# Altium footprint library MyLib.PcbLib: 96 footprints (part 5 of 6)
Each footprint in its own frame and in the unit in brackets; x right, y up, seen from the top. Pads: shape width x height; smd on the part's side, far side on the other; paste and mask are expansions set on the pad; w line width, h text height; cw(c..) or ccw(c..) is an arc to the next point about the centre after c.
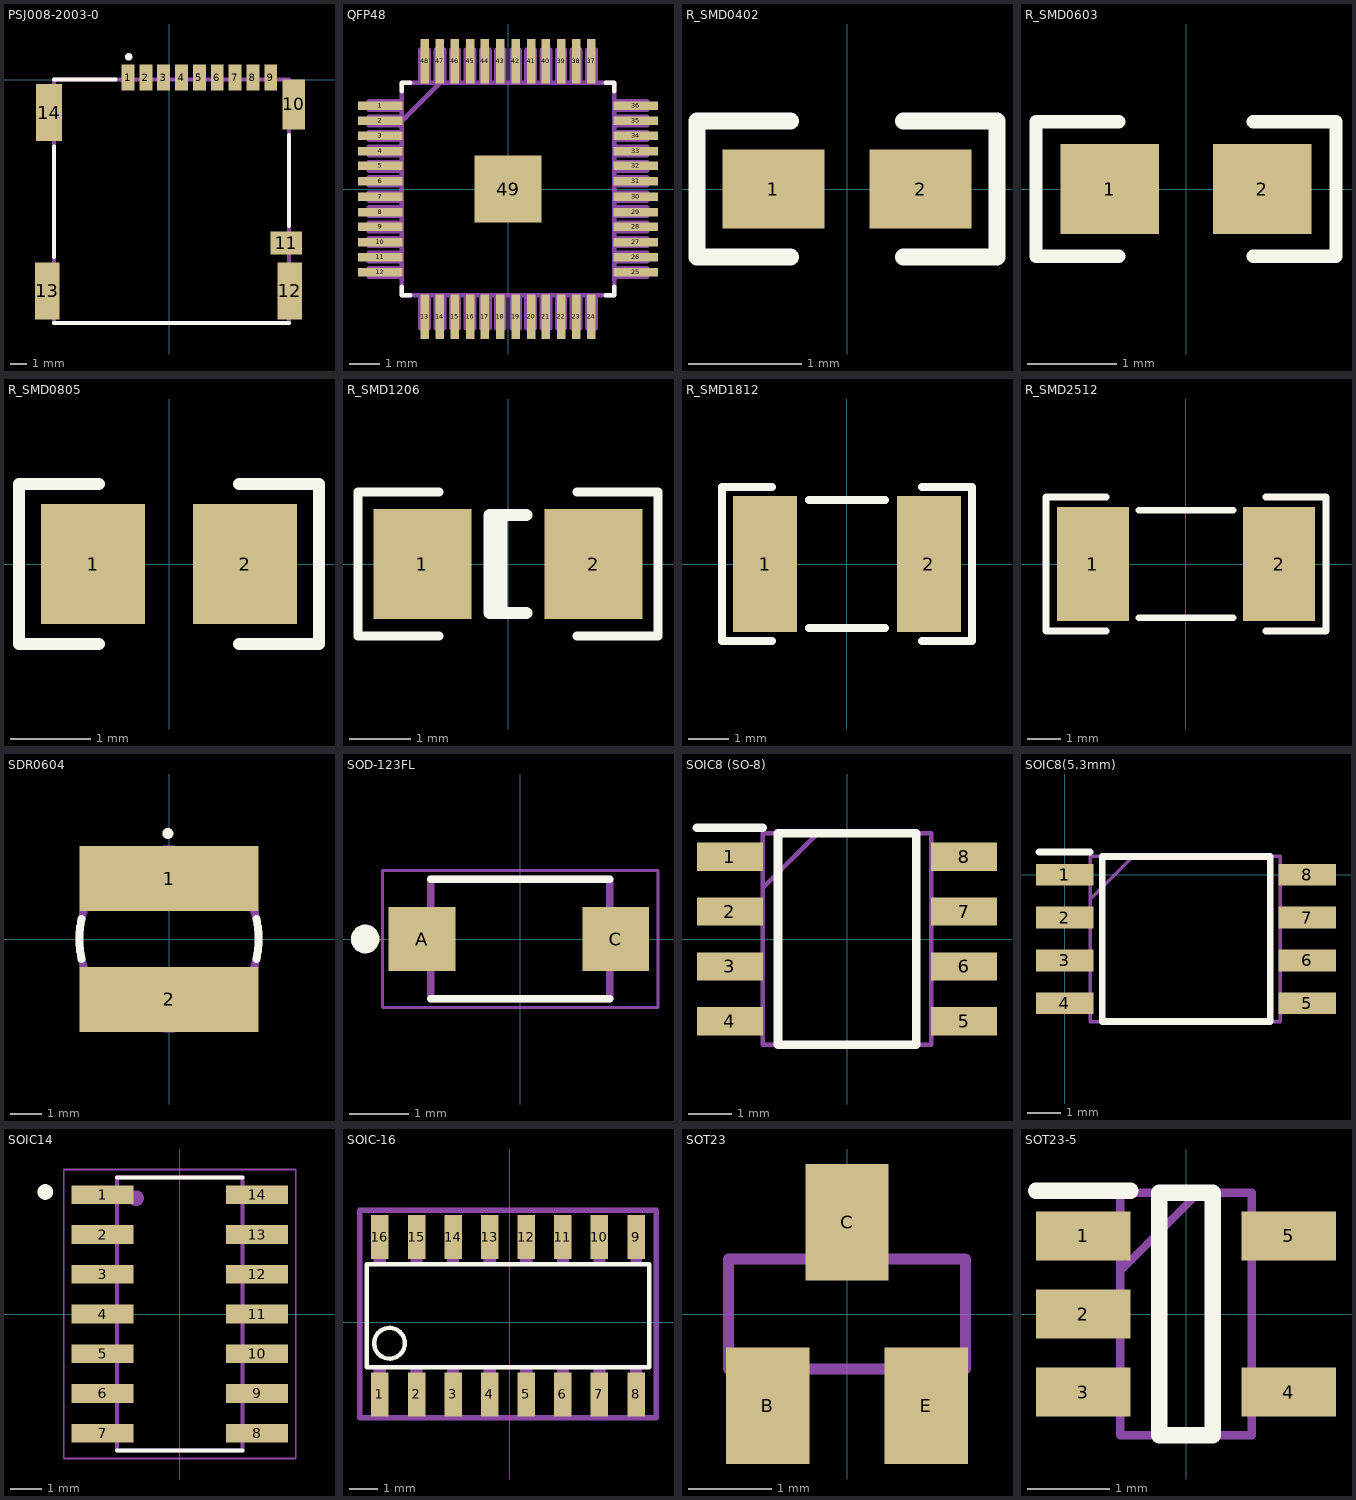
[diagram p4: the footprints below, top view; thin cyan lines are the x and y axes]

## PSJ008-2003-0 [mm]
pads (14):
  rect 0.8x1.6 smd: 1(-2.548,0.124) 2(-1.448,0.124) 3(-0.348,0.124) 4(0.752,0.124) 5(1.852,0.124) 6(2.952,0.124) 7(4.052,0.124) 8(5.152,0.124) 9(6.252,0.124)
  rect 1.4x3.1 smd: 10(7.677,-1.526)
  rect 1.95x1.4 smd: 11(7.202,-10.076)
  rect 1.5x3.5 smd: 12(7.427,-13.026) 13(-7.523,-13.026)
  rect 1.6x3.5 smd: 14(-7.423,-2.026)
Top Overlay:
  circle w0.254: c-2.508,1.412 r0.104
  lines w0.254: -7.123,-15 7.377,-15 ; -7.123,-10.93 -7.123,-4.122 ; -7.123,0 -3.318,0 ; 7.377,-9.032 7.377,-3.428
Mechanical 15:
  lines w0.254: -7.123,-15 -7.123,0 7.377,0 7.377,-15 -7.123,-15

## QFP48 [mil]
pads (49):
  rect 58x11 smd: 1(-166,108) 2(-166,89) 3(-166,69) 4(-166,49) 5(-166,30) 6(-166,10) 7(-166,-10) 8(-166,-30) 9(-166,-49) 10(-166,-69) 11(-166,-89) 12(-166,-108) 25(166,-108) 26(166,-89) 27(166,-69) 28(166,-49) 29(166,-30) 30(166,-10) 31(166,10) 32(166,30) 33(166,49) 34(166,69) 35(166,89) 36(166,108)
  rect 11x58 smd: 13(-108,-166) 14(-89,-166) 15(-69,-166) 16(-49,-166) 17(-30,-166) 18(-10,-166) 19(10,-166) 20(30,-166) 21(49,-166) 22(69,-166) 23(89,-166) 24(108,-166) 37(108,166) 38(89,166) 39(69,166) 40(49,166) 41(30,166) 42(10,166) 43(-10,166) 44(-30,166) 45(-49,166) 46(-69,166) 47(-89,166) 48(-108,166)
  rect 87x87 smd: 49(0,0)
Top Overlay:
  lines w6: -138,-127 -138,-138 -127,-138 ; -138,127 -138,138 -127,138 ; 127,-138 138,-138 138,-127 ; 127,138 138,138 138,127
Mechanical 1:
  drawing of 199 lines, arcs and shapes, not listed
3D body "User Library-QFP48.STEP": height 62.83, standoff 2.36, extent -177.28,-177.17 177.28,177.4

## R_SMD0402 [mm]
pads (2):
  rect 0.9x0.7 smd: 1(-0.65,0) 2(0.65,0)
Top Overlay:
  lines w0.15: -0.5,-0.6 -1.325,-0.6 -1.325,0.6 -0.5,0.6 ; 0.5,-0.6 1.325,-0.6 1.325,0.6 0.5,0.6

## R_SMD0603 [mm]
pads (2):
  rect 1.1x1 smd: 1(-0.85,0) 2(0.85,0)
Top Overlay:
  lines w0.15: -0.75,-0.75 -1.675,-0.75 -1.675,0.75 -0.75,0.75 ; 0.75,-0.75 1.675,-0.75 1.675,0.75 0.75,0.75
3D body "User Library-RES0603-3.step": height 0.45, standoff 0, extent -0.825,-0.4 0.775,0.4

## R_SMD0805 [mm]
pads (2):
  rect 1.3x1.5 smd: 1(-0.95,0) 2(0.95,0)
Top Overlay:
  lines w0.15: -0.875,-1 -1.875,-1 -1.875,1 -0.875,1 ; 0.875,-1 1.875,-1 1.875,1 0.875,1
3D body "User Library-RES0805-2.step": height 0.55, standoff 0, extent -0.975,-0.6 1.025,0.65

## R_SMD1206 [mm]
pads (2):
  rect 1.6x1.8 smd: 1(-1.4,0) 2(1.4,0)
Top Overlay:
  lines w0.15: -1.125,-1.175 -2.45,-1.175 -2.45,1.175 -1.125,1.175 ; 1.125,-1.175 2.45,-1.175 2.45,1.175 1.125,1.175
  lines w0.2: -0.11,-0.8 -0.11,0.8 ; 0.3,-0.8 -0.3,-0.8 -0.3,0.8 0.3,0.8
3D body "User Library-User Library-1206_Res1.step": height 1.25, standoff 0, extent -2.245,-0.8 2.295,0.8

## R_SMD1812 [mm]
pads (2):
  rect 1.6x3.4 smd: 1(-2.05,0) 2(2.05,0)
Top Overlay:
  lines w0.2: -1.875,-1.925 -3.125,-1.925 -3.125,1.925 -1.875,1.925 ; -0.95,-1.6 0.95,-1.6 ; -0.95,1.6 0.95,1.6 ; 1.875,-1.925 3.125,-1.925 3.125,1.925 1.875,1.925

## R_SMD2512 [mm]
pads (2):
  rect 2.15x3.4 smd: 1(-2.775,0) 2(2.775,0)
Top Overlay:
  lines w0.2: -2.375,-2 -4.175,-2 -4.175,2 -2.375,2 ; -1.4,-1.6 1.4,-1.6 ; -1.4,1.6 1.4,1.6 ; 2.375,-2 4.175,-2 4.175,2 2.375,2
3D body "User Library-res2512.STEP": height 0.64, standoff 0, extent -3.411,-1.656 3.389,1.644

## SDR0604 [mm]
pads (2):
  rect 5.8x2.1 smd: 1(0,1.95) 2(0,-1.95)
Top Overlay:
  circle w0.254: c-0.036,3.411 r0.048
  lines w0.254: -2.827,-0.647 cw(c0,0) -2.826,0.652 ; 2.826,0.652 cw(c0,0) 2.827,-0.647
Mechanical 15:
  circle w0.254: c0,0 r2.9

## SOD-123FL [mm]
pads (2):
  rect 1.12x1.08 smd: A(-1.645,0) C(1.6,0)
Top Overlay:
  circle w0.24: c-2.6,0 r0.12
  lines w0.127: -1.5,-1 1.5,-1 ; -1.5,1 1.5,1
Mechanical 15:
  lines w0.127: -1.5,-1 1.5,-1 1.5,1 -1.5,1 -1.5,-1
Mechanical 16:
  lines w0.05: -2.31,-1.15 2.31,-1.15 2.31,1.15 -2.31,1.15 -2.31,-1.15
3D body "User Library-MBR140SF.STEP": height 0.95, standoff 0, extent -1.825,-0.825 1.775,0.825

## SOIC8 (SO-8) [mm]
pads (8):
  rect 1.525x0.65 smd: 1(-2.712,1.905) 2(-2.712,0.635) 3(-2.712,-0.635) 4(-2.712,-1.905) 5(2.712,-1.905) 6(2.712,-0.635) 7(2.712,0.635) 8(2.712,1.905)
Top Overlay:
  lines w0.2: -3.475,2.58 -1.95,2.58 ; -1.6,-2.45 1.6,-2.45 1.6,2.45 -1.6,2.45 -1.6,-2.45
Mechanical 15:
  lines w0.1: -1.95,1.18 -0.68,2.45 ; -1.95,-2.45 1.95,-2.45 1.95,2.45 -1.95,2.45 -1.95,-2.45
3D body "SOIC08 narrow.stp": height 2, standoff 0, extent -3.082,-2.5 3.082,2.5

## SOIC8(5.3mm) [mm]
pads (8):
  rect 1.7x0.65 smd: 1(0,0) 2(0,-1.27) 3(0,-2.54) 4(0,-3.81) 5(7.2,-3.81) 6(7.2,-2.54) 7(7.2,-1.27) 8(7.2,0)
Top Overlay:
  lines w0.2: -0.763,0.675 0.762,0.675 ; 1.112,-4.355 6.1,-4.355 6.1,0.545 1.112,0.545 1.112,-4.355
Mechanical 15:
  lines w0.1: 0.762,-0.725 2.032,0.545 ; 0.762,-4.355 6.4,-4.355 6.4,0.545 0.762,0.545 0.762,-4.355
3D body "User Library-SOIC-8-2.step": height 2.58, standoff 0, extent -0.4,-4.5 7.6,0.75

## SOIC14 [mm]
height 1.75
pads (14):
  rect 1.97x0.6 smd: 1(-2.47,3.81) 2(-2.47,2.54) 3(-2.47,1.27) 4(-2.47,0) 5(-2.47,-1.27) 6(-2.47,-2.54) 7(-2.47,-3.81) 8(2.47,-3.81) 9(2.47,-2.54) 10(2.47,-1.27) 11(2.47,0) 12(2.47,1.27) 13(2.47,2.54) 14(2.47,3.81)
Top Overlay:
  circle w0.3: c-4.3,3.9 r0.1
  lines w0.127: -2,-4.37 2,-4.37 ; -2,4.37 2,4.37
Mechanical 1:
  circle w0.3: c-1.4,3.7 r0.1
  lines w0.127: -2,-4.37 2,-4.37 2,4.37 -2,4.37 -2,-4.37
Mechanical 4:
  lines w0.05: -3.71,-4.62 3.71,-4.62 3.71,4.62 -3.71,4.62 -3.71,-4.62

## SOIC-16 [mil]
pads (16):
  rect 24x60 smd: 1(-177.52,-98.62) 2(-127.52,-98.62) 3(-77.52,-98.62) 4(-27.52,-98.62) 5(22.48,-98.62) 6(72.48,-98.62) 7(122.48,-98.62) 8(172.48,-98.62) 9(172.48,116.38) 10(122.48,116.38) 11(72.48,116.38) 12(22.48,116.38) 13(-27.52,116.38) 14(-77.52,116.38) 15(-127.52,116.38) 16(-177.52,116.38)
Top Overlay:
  circle w6: c-164.52,-28.62 r21
  lines w6: -195.52,-61.62 190.48,-61.62 190.48,79.38 -195.52,79.38 -195.52,-61.62
Mechanical 1:
  region: 165.02,120.38 180.48,120.38 180.48,80.6 165.02,80.6
  region: 114.8,120.38 130.48,120.38 130.48,80.56 114.8,80.56
  region: 64.63,120.38 80.48,120.38 80.48,80.53 64.63,80.53
  region: 14.49,120.38 30.48,120.38 30.48,80.43 14.49,80.43
  region: -35.62,120.38 -19.52,120.38 -19.52,80.6 -35.62,80.6
  region: -85.78,120.38 -69.52,120.38 -69.52,80.6 -85.78,80.6
  region: -135.59,120.38 -119.52,120.38 -119.52,80.42 -135.59,80.42
  region: -186.12,120.38 -169.52,120.38 -169.52,80.6 -186.12,80.6
  region: -186.16,-62.62 -169.52,-62.62 -169.52,-103.02 -186.16,-103.02
  region: -135.77,-62.62 -119.52,-62.62 -119.52,-102.83 -135.77,-102.83
  region: -85.57,-62.62 -69.52,-62.62 -69.52,-102.69 -85.57,-102.69
  region: -35.56,-62.62 -19.52,-62.62 -19.52,-102.76 -35.56,-102.76
  region: 14.51,-62.62 30.48,-62.62 30.48,-102.85 14.51,-102.85
  region: 64.55,-62.62 80.48,-62.62 80.48,-102.74 64.55,-102.74
  region: 114.67,-62.62 130.48,-62.62 130.48,-102.8 114.67,-102.8
  region: 164.51,-62.62 180.48,-62.62 180.48,-102.64 164.51,-102.64
Mechanical 15:
  lines w7.87: -205.04,-130.39 -205.04,153.15 200,153.15 200,-130.39 -205.04,-130.39
3D body "User Library-SOIC-16-5.STEP": height 59.06, standoff -9.79, extent -200.78,-112.5 192.92,128.24

## SOT23 [mm]
pads (3):
  rect 1x1.4 smd: B(-0.95,-1.1) C(0,1.1) E(0.95,-1.1)
Mechanical 15:
  region: -0.229,1.295 0.229,1.295 0.229,0.712 -0.229,0.712
  region: 0.713,-0.711 1.168,-0.711 1.168,-1.298 0.713,-1.298
  region: -1.17,-0.711 -0.711,-0.711 -0.711,-1.297 -1.17,-1.297
  lines w0.127: -1.422,-0.66 -1.422,0.66 1.422,0.66 1.422,-0.66 -1.422,-0.66
3D body "User Library-sot23-1.step": height 1, standoff 0, extent -1.46,-1.17 1.46,1.17

## SOT23-5 [mm]
pads (5):
  rect 1.15x0.6 smd: 1(-1.25,0.95) 2(-1.25,0) 3(-1.25,-0.95) 4(1.25,-0.95) 5(1.25,0.95)
Top Overlay:
  lines w0.2: -1.825,1.5 -0.675,1.5 ; -0.325,-1.475 0.325,-1.475 0.325,1.475 -0.325,1.475 -0.325,-1.475
Mechanical 15:
  lines w0.1: -0.8,0.525 0.15,1.475 ; -0.8,-1.475 0.8,-1.475 0.8,1.475 -0.8,1.475 -0.8,-1.475
3D body "LD3985M33R.stp": height 1.45, standoff 0, extent -1.4,-1.475 1.4,1.475